# Altium footprint library 杂项库.PcbLib: 585 footprints (part 3 of 37)
Each footprint in its own frame and in the unit in brackets; x right, y up, seen from the top. Pads: shape width x height; smd on the part's side, far side on the other; paste and mask are expansions set on the pad; w line width, h text height; cw(c..) or ccw(c..) is an arc to the next point about the centre after c.
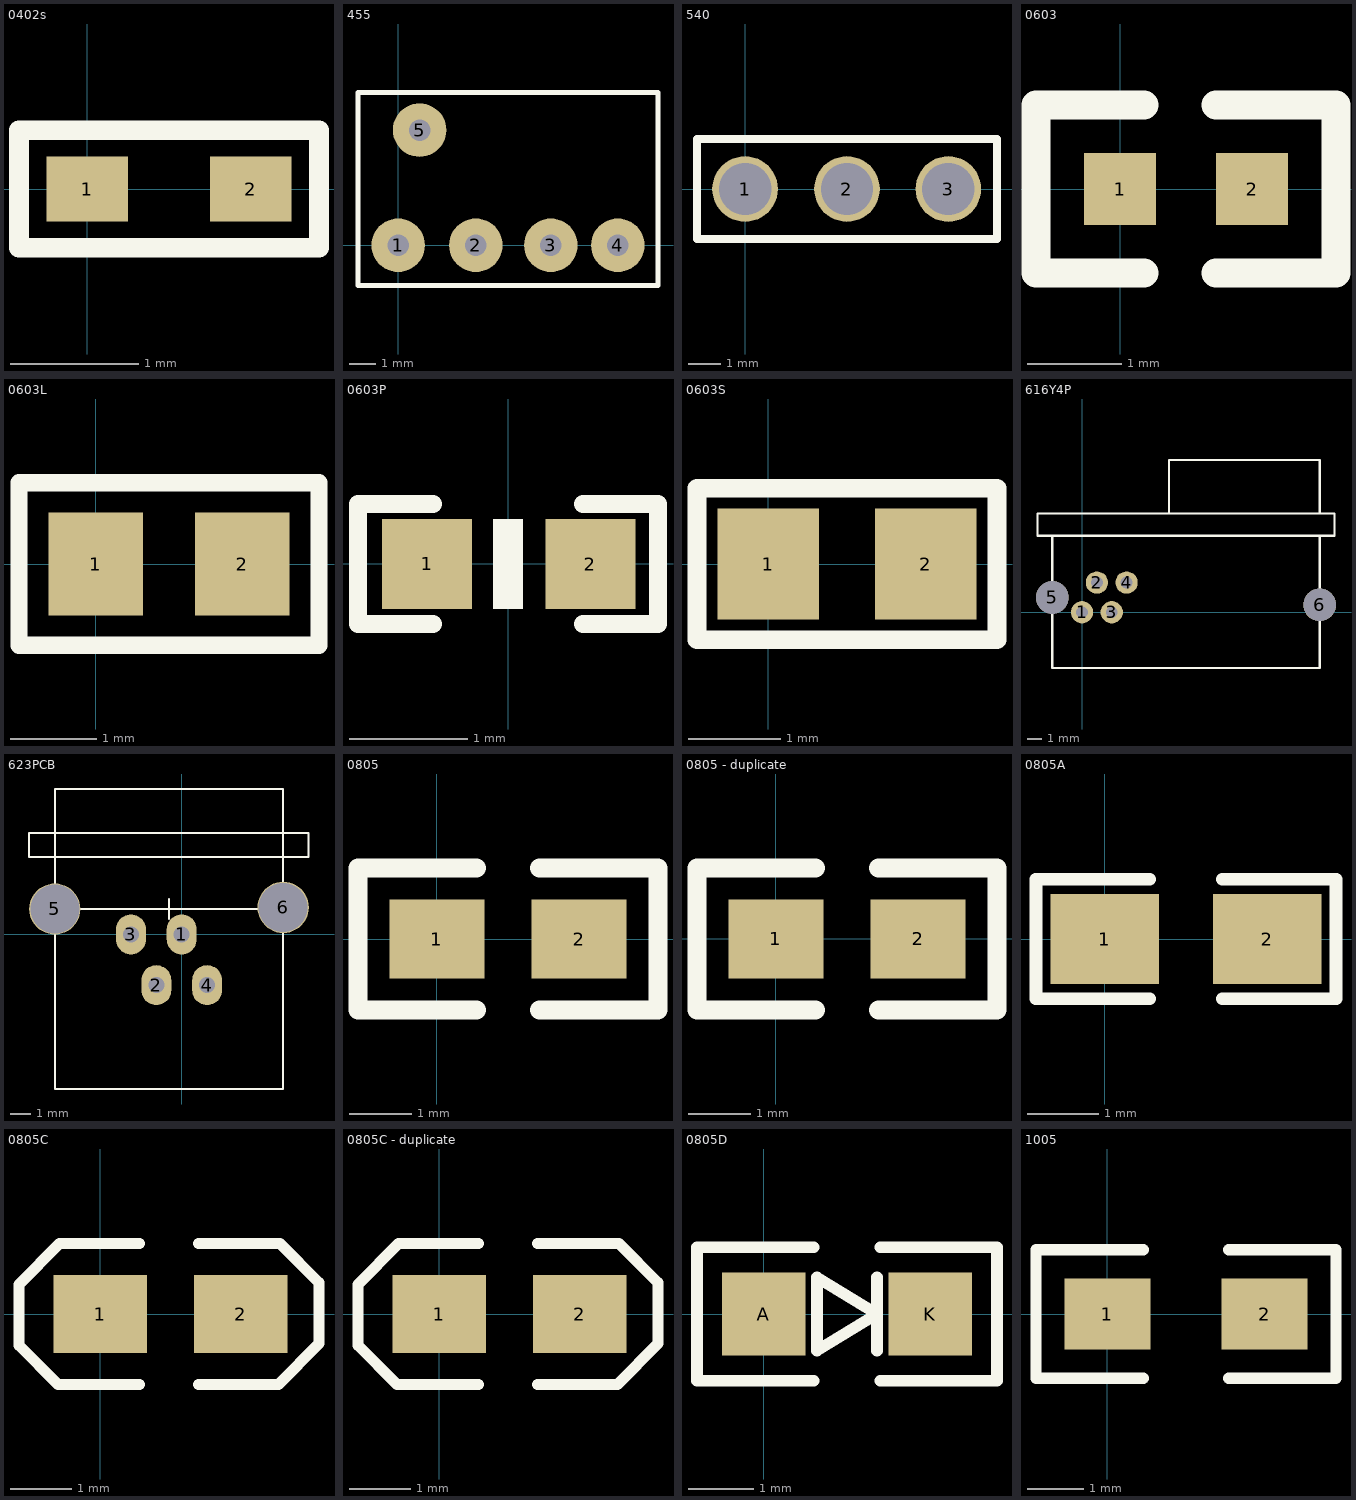
[diagram p2: the footprints below, top view; thin cyan lines are the x and y axes]

## 0402s [mil]
pads (2):
  rect 25x20 smd: 1(0,0) 2(50,0)
Top Overlay:
  lines w6: -21,-18 -21,18 71,18 71,-18 -21,-18

## 455 [mm]
pads (5):
  round 2 hole 0.8: 1(0,0) 2(2.9,0) 3(5.7,0) 4(8.2,0) 5(0.8,4.3)
Top Overlay:
  lines w0.2: -1.5,-1.5 -1.5,5.7 9.7,5.7 9.7,-1.5 -1.5,-1.5

## 540 [mm]
pads (3):
  round 2 hole 1.6: 1(0,0) 2(3.107,0) 3(6.198,0)
Top Overlay:
  lines w0.254: -1.465,-1.524 -0.957,-1.524 7.679,-1.524 7.679,1.524 -1.465,1.524 -1.465,-1.524

## 0603 [mil]
pads (2):
  rect 30x30 smd: 1(0,0) 2(55,0)
Top Overlay:
  lines w12: 10,-35 -35,-35 -35,35 10,35 ; 40,-35 90,-35 90,35 40,35

## 0603L [mm]
pads (2):
  rect 1.1x1.2 smd: 1(0,0) 2(1.7,0)
Top Overlay:
  lines w0.2: -0.896,-0.946 2.596,-0.946 2.596,0.946 -0.896,0.946 -0.896,-0.946

## 0603P [mil]
pads (2):
  rect 30x30 smd: 1(-27,0) 2(27.5,-0.06)
Top Overlay:
  region: 5,-15.06 5,14.94 -5,14.94 -5,-15.06
  lines w6: -25,-20.06 -50,-20.06 -50,19.94 -25,19.94 ; 25,-20.06 50,-20.06 50,19.94 25,19.94

## 0603S [mm]
pads (2):
  rect 1.1x1.2 smd: 1(0,0) 2(1.7,0)
Top Overlay:
  lines w0.2: -0.769,-0.819 -0.769,0.819 2.469,0.819 2.469,-0.819 -0.769,-0.819

## 616Y4P [mm]
pads (6):
  round 1.5 hole 0.8: 1(0,0) 2(1,2) 3(2,0) 4(3,2)
  round 2.2 hole 2.2: 5(-2,1) 6(16,0.5)
Top Overlay:
  lines w0.15: -2,5.15 16,5.15 ; -2,5.15 -3,5.15 -3,6.65 17,6.65 17,5.15 16,5.15 ; -2,5.15 -2,-3.75 16,-3.75 16,5.15 ; 5.85,6.65 5.85,10.25 16,10.25 16,6.65 5.85,6.65

## 623PCB [mm]
pads (6):
  oval 1.5x2 hole 0.8: 1(0,0) 2(-1.27,-2.54) 3(-2.54,0) 4(1.27,-2.54)
  round 2.561 hole 2.45: 5(-6.345,1.27)
  round 2.572 hole 2.45: 6(5.075,1.35)
Top Overlay:
  lines w0.1: -6.345,1.27 5.075,1.27 ; -0.635,0.78 -0.635,1.77 ; -7.635,3.88 -7.635,5.07 6.345,5.07 6.345,3.88 -7.635,3.88 ; -6.335,-7.73 5.065,-7.73 5.065,7.27 -6.335,7.27 -6.335,-7.73 ; -6.335,1.27 -6.335,3.88 5.065,3.88 5.065,1.27 -6.335,1.27

## 0805 [mil]
pads (2):
  rect 60x50 smd: 1(0,0) 2(90,0)
Top Overlay:
  lines w12: 25,-45 -50,-45 -50,45 25,45 ; 65,-45 140,-45 140,45 65,45

## 0805 - duplicate [mil]
pads (2):
  rect 60x50 smd: 1(0,-0.06) 2(90,-0.06)
Top Overlay:
  lines w12: 25,-45.06 -50,-45.06 -50,44.94 25,44.94 ; 65,-45.06 140,-45.06 140,44.94 65,44.94

## 0805A [mil]
pads (2):
  rect 60x50 smd: 1(0,0) 2(90,0)
Top Overlay:
  lines w7: 25,-33 -38,-33 -38,33 25,33 ; 65,-33 128,-33 128,33 65,33

## 0805C [mil]
pads (2):
  rect 60x50 smd: 1(0,0) 2(90,0)
Top Overlay:
  lines w7.09: -20,45 -26,45 ; 25,-45 -27,-45 -52,-20 -52,19 -26,45 ; 25,45 -26,45 ; 63,-45 114,-45 ; 63,45 115,45 140,20 140,-19 114,-45 ; 108,-45 114,-45

## 0805C - duplicate [mil]
pads (2):
  rect 60x50 smd: 1(0,0) 2(90,0)
Top Overlay:
  lines w7.09: -20,45 -26,45 ; 25,-45 -27,-45 -52,-20 -52,19 -26,45 ; 25,45 -26,45 ; 63,-45 114,-45 ; 63,45 115,45 140,20 140,-19 114,-45 ; 108,-45 114,-45

## 0805D [mil]
pads (2):
  rect 50x50 smd: A(0,0) K(100,0)
Top Overlay:
  lines w7: 30,-40 -40,-40 -40,40 30,40 ; 68,-22 68,0 ; 68,22 68,0 ; 70,-40 140,-40 140,40 70,40 ; 68,0 32,22 32,0 32,-22 68,0

## 1005 [mil]
pads (2):
  rect 60x50 smd: 1(0,0) 2(110,0)
Top Overlay:
  lines w7.87: 25,-45 -50,-45 -50,45 25,45 ; 85,-45 160,-45 160,45 85,45